# EAGLE library part P9_HDR_2X23_SMD (library logic-supply)
P9 Header 2x23_SMD for BeagleBone (pin 1 match)
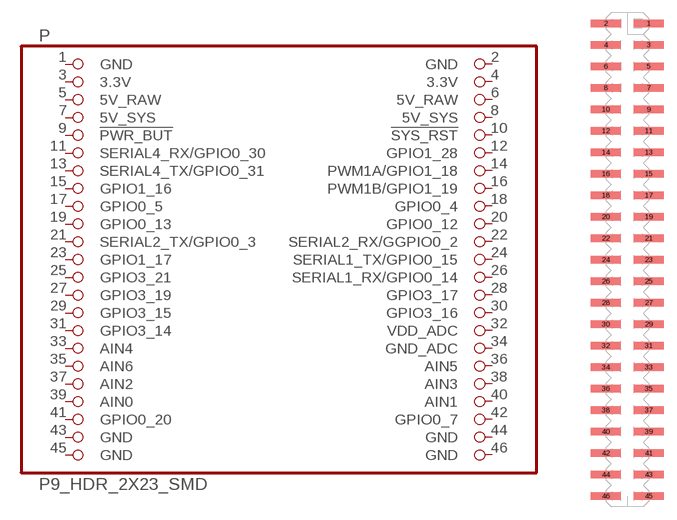
[diagram p54: symbol with the pads of HDR_2X23_SMD; footprint HDR_2X23_SMD]

Designator prefix P

## P9_HDR_2X23_SMD  [HDR_2X23_SMD]
1  GND  pwr
2  GND  pwr
3  3.3V  pwr
4  3.3V  pwr
5  5V_RAW  pwr
6  5V_RAW  pwr
7  5V_SYS  pwr
8  5V_SYS  pwr
9  !PWR_BUT  in
10  !SYS_RST  in
11  SERIAL4_RX/GPIO0_30
12  GPIO1_28
13  SERIAL4_TX/GPIO0_31
14  PWM1A/GPIO1_18
15  GPIO1_16
16  PWM1B/GPIO1_19
17  GPIO0_5
18  GPIO0_4
19  GPIO0_13
20  GPIO0_12
21  SERIAL2_TX/GPIO0_3
22  SERIAL2_RX/GGPIO0_2
23  GPIO1_17
24  SERIAL1_TX/GPIO0_15
25  GPIO3_21
26  SERIAL1_RX/GPIO0_14
27  GPIO3_19
28  GPIO3_17
29  GPIO3_15
30  GPIO3_16
31  GPIO3_14
32  VDD_ADC
33  AIN4  in
34  GND_ADC
35  AIN6  in
36  AIN5  in
37  AIN2  in
38  AIN3  in
39  AIN0  in
40  AIN1  in
41  GPIO0_20
42  GPIO0_7
43  GND
44  GND
45  GND
46  GND

## Footprint HDR_2X23_SMD (pad centres in mm)
HEADER 2x23 SMD BeagleBone P8 P9 (Pin 1 matches P8/P9-1)
smd 3.556 x 0.889: 1 2.54,27.94; 2 -2.54,27.94; 3 2.54,25.4; 4 -2.54,25.4; 5 2.54,22.86; 6 -2.54,22.86; 7 2.54,20.32; 8 -2.54,20.32; 9 2.54,17.78; 10 -2.54,17.78; 11 2.54,15.24; 12 -2.54,15.24; 13 2.54,12.7; 14 -2.54,12.7; 15 2.54,10.16; 16 -2.54,10.16; 17 2.54,7.62; 18 -2.54,7.62; 19 2.54,5.08; 20 -2.54,5.08; 21 2.54,2.54; 22 -2.54,2.54; 23 2.54,0; 24 -2.54,0; 25 2.54,-2.54; 26 -2.54,-2.54; 27 2.54,-5.08; 28 -2.54,-5.08; 29 2.54,-7.62; 30 -2.54,-7.62; 31 2.54,-10.16; 32 -2.54,-10.16; 33 2.54,-12.7; 34 -2.54,-12.7; 35 2.54,-15.24; 36 -2.54,-15.24; 37 2.54,-17.78; 38 -2.54,-17.78; 39 2.54,-20.32; 40 -2.54,-20.32; 41 2.54,-22.86; 42 -2.54,-22.86; 43 2.54,-25.4; 44 -2.54,-25.4; 45 2.54,-27.94; 46 -2.54,-27.94